# Altium schematic symbol library VJ0603A120JXACW1BC.SchLib: 1 symbol
Pins are listed as number, name and electrical type; pins without a type are passive.

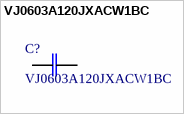
[diagram p0: symbol VJ0603A120JXACW1BC]

## VJ0603A120JXACW1BC
designator C?
Manufacturer_Name: Vishay; Copyright: Copyright (C) 2025 Ultra Librarian. All rights reserved.; Manufacturer_Part_Number: VJ0603A120JXACW1BC; Datasheet: https://www.vishay.com/doc?28548
footprint CAP_VJ0603_VIS
pins: 1, 2